# Altium schematic symbol library Socket.SchLib: 22 symbols
Pins are listed as number, name and electrical type; pins without a type are passive.

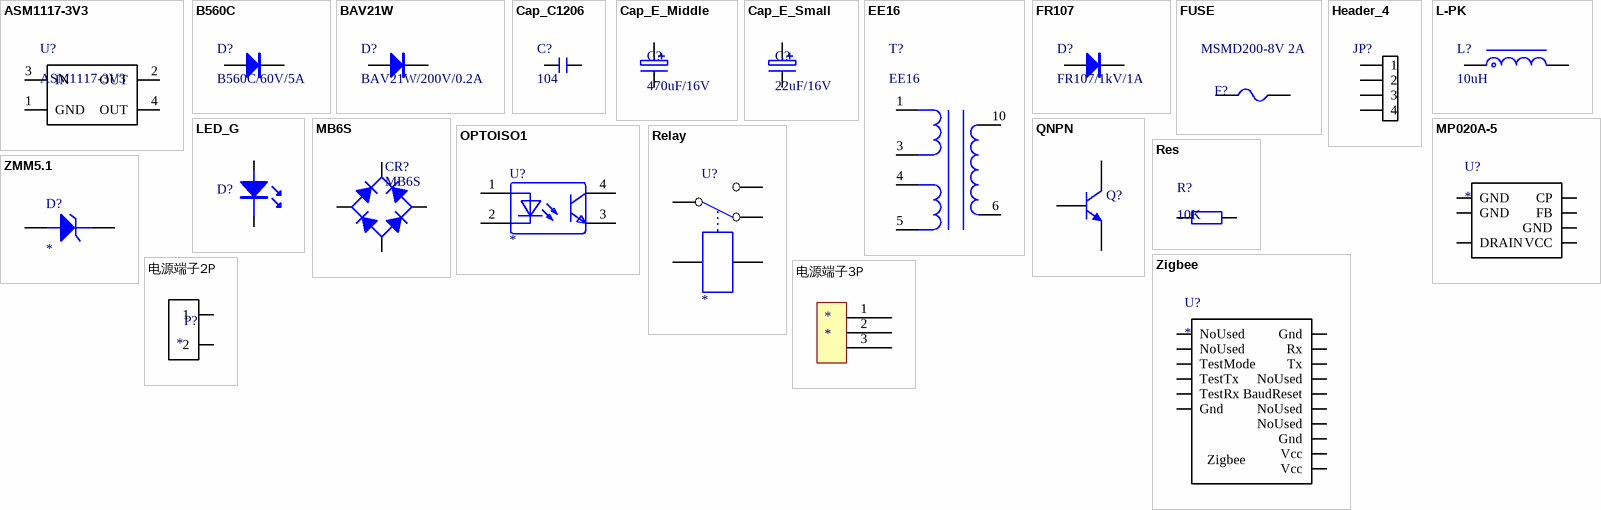
[diagram p0: symbols ASM1117-3V3 to 电源端子3P]

## ASM1117-3V3
designator U?
3V3稳压芯片
footprint SOT-223 (ASM1117 -3.3V)
pins: 1 GND, 2 OUT, 3 IN, 4 OUT

## B560C
designator D?, comment B560C/60V/5A
肖特基二极管; 版权归属: 源创客; 属性: 40V/1A; BOM名称: 肖特基二极管; 学习资源: www.ooocke.com
footprint SMC (DO-214AB(2114))
pins: 1 A, 2 K

## BAV21W
designator D?, comment BAV21W/200V/0.2A
高速开关二极管; 版权归属: 源创客; BOM名称: 高速开关二极管; 学习资源: www.ooocke.com
footprint SOD123 (1206)
pins: 1 A, 2 K

## Cap_C1206
designator C?, comment 104
无极性贴片电容; 版权归属: 源创客; BOM名称: 无极性贴片电容; 学习资源: www.ooocke.com
footprint C1206 (3216/A型)
pins: 1, 2

## Cap_E_Middle
designator C?, comment 470uF/16V
CAP 10*16; BOM名称: 直插电解电容; 版权归属: 源创客; 学习资源: www.ooocke.com
footprint C10x16 (RB.2/.4)
pins: 1, 2

## Cap_E_Small
designator C?, comment 22uF/16V
CAP 6.3*7; BOM名称: 直插电解电容; 版权归属: 源创客; 学习资源: www.ooocke.com
footprint C6.3*7
pins: 1, 2

## EE16
designator T?
高频变压器; ROM名称: 12V 高频变压器; 版权归属: 源创客; 学习资源: www.ooocke.com
footprint EE16
pins: 1, 3, 4, 5, 6, 10

## FR107
designator D?, comment FR107/1kV/1A
快恢复整流二极管; BOM名称: 快恢复二极管; 版权归属: 源创客; 属性: 700V/1A; 学习资源: www.ooocke.com
footprint DO-41 (2.6*9.1mm(直径，脚距）)
pins: 1 A, 2 K

## FUSE
designator F?, comment MSMD200-8V 2A
贴片保险丝_1812; BOM名称: 贴片保险丝; 版权归属: 源创客; 学习资源: www.ooocke.com
footprint FU 1812 (贴片保险丝)
pins: 1, 2

## Header_4
designator JP?, comment HDR-1X4  (value not drawn)
排针; BOM名称: 4P接插件; 版权归属: 源创客; 学习资源: www.ooocke.com
footprint Header_4 (插针)
pins: 1, 2, 3, 4

## L-PK
designator L?, comment 10uH
工字电感; 版权归属: 源创客; BOM名称: 工字电感; 学习资源: www.ooocke.com
footprint PK0810 (5*9*12mm(脚距，直径，高）)
pins: 1, 2

## LED_G
designator D?  (value not drawn)
1206
footprint LED1206G (1/4W)
pins: 1 A, 2 K

## MB6S
designator CR?
600V/1A整流桥; BOM名称: 700V/1A整流桥; 版权归属: 源创客; 学习资源: www.ooocke.com
footprint MBS
pins: AC1, AC2, DC+, DC-

## MP020A-5
designator U?
AC-DC
footprint SOIC8-7A
pins: 1 VCC, 2 GND, 3 FB, 4 CP, 5 GND, 6 GND, 8 DRAIN

## OPTOISO1
designator U?
Optoisolator
footprint SOP4-2.54 (间距2.54mm（蒜米工坊）)
pins: 1, 2, 3, 4

## QNPN
designator Q?
NPN Bipolar Transistor; Published: 8-Jun-2000; LatestRevisionDate: 29-May-2009; LatestRevisionNote: IPC-7351 Footprint Added.; PackageVersion: Aug-1999; PackageReference: SOT-23B; Publisher: Altium Limited; PackageDescription: 3-Pin SOT-23 Package 0.95 mm Pitch, 2.4 mm Lead Span
footprint SOT-23B_N (SOT23, 3-Leads, Body 2.9x1.3mm, Pitch 0.95mm, Lead Span 2.4mm, IPC Medium Density)
footprint SOT-23B_L (SOT23, 3-Leads, Body 2.9x1.3mm, Pitch 0.95mm, Lead Span 2.4mm, IPC High Density)
footprint SOT-23B_M (SOT23, 3-Leads, Body 2.9x1.3mm, Pitch 0.95mm, Lead Span 2.4mm, IPC Low Density)
simulation model QNPN (NPN)
signal-integrity model NPN
pins: 1 C, 2 B, 3 E

## Relay
designator U?
继电器
footprint SRD-C_Y (单刀双投)
pins: 1, 2, 3, 4, 5

## Res
designator R?, comment 10K
1206
footprint R1206 (1/4W)
pins: 1, 2

## Zigbee
designator U?
DL-LN33
footprint DL-LN_MODE
pins: 1 NoUsed, 2 NoUsed, 3 TestMode, 4 TestTx, 5 TestRx, 6 Gnd, 7 Vcc, 8 Vcc, 9 Gnd, 10 NoUsed, 11 NoUsed, 12 BaudReset, 13 NoUsed, 14 Tx, 15 Rx, 16 Gnd

## ZMM5.1
designator D?
Zener Diode
footprint LL41 (DO-213AB/LL35)
pins: 1 A, 2 K

## 电源端子2P
designator P?
电源端子2P
footprint KF128-5.08-2P (螺钉式接线端子，脚距5.08mm)
pins: 1 (power), 2 (power)

## 电源端子3P
designator *
footprint KF128-5.08-3P (螺钉式接线端子，脚距5.08mm)
pins: 1, 2, 3